# EAGLE library part S3B-XH-A(LF)(SN) (library S6B-XH-A_LF__SN_)
Connector Header Through Hole, Right Angle 3 position 0.098" (2.50mm) Check availability <https://pricing.snapeda.com/parts/S3B-XH-A%28LF%29%28SN%29/JST%20Sales/view-part?ref=eda>
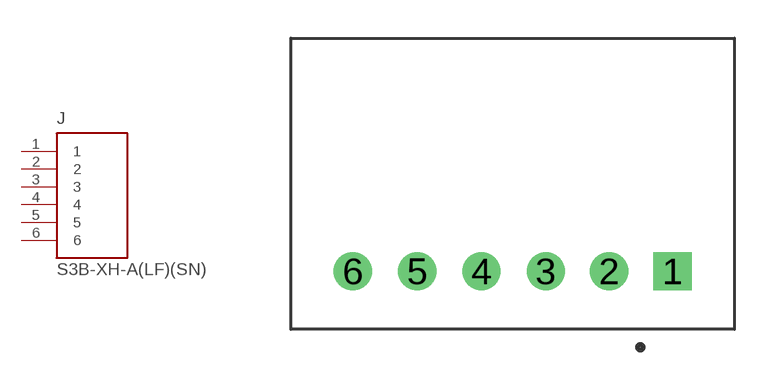
[diagram p0: symbol with the pads of JST_S3B-XH-A(LF)(SN); footprint JST_S3B-XH-A(LF)(SN)]

Designator prefix J

## S3B-XH-A(LF)(SN) (AVAILABILITY: In Stock; DESCRIPTION: Connector Header Through Hole, Right Angle 3 position 0.098 (2.50mm); MF: JST Sales; MP: S3B-XH-A(LF)(SN); PACKAGE: Custom Package JST Sales; PRICE: None; PURCHASE-URL: https://pricing.snapeda.com/search/part/S3B-XH-A(LF)(SN)/?ref=eda)  [JST_S3B-XH-A(LF)(SN)]
1  1  pas
2  2  pas
3  3  pas
4  4  pas
5  5  pas
6  6  pas

## Footprint JST_S3B-XH-A(LF)(SN) (pad centres in mm)
drill 1 square: 1 6.31,-3.45
drill 1: 2 3.81,-3.45; 3 1.31,-3.45; 4 -1.23,-3.45; 5 -3.77,-3.45; 6 -6.31,-3.45